# Altium schematic symbol library SCH - MCU - NUVOTON - NUVOTON M030GTC0AE.SchLib: 1 symbol
Pins are listed as number, name and electrical type; pins without a type are passive.

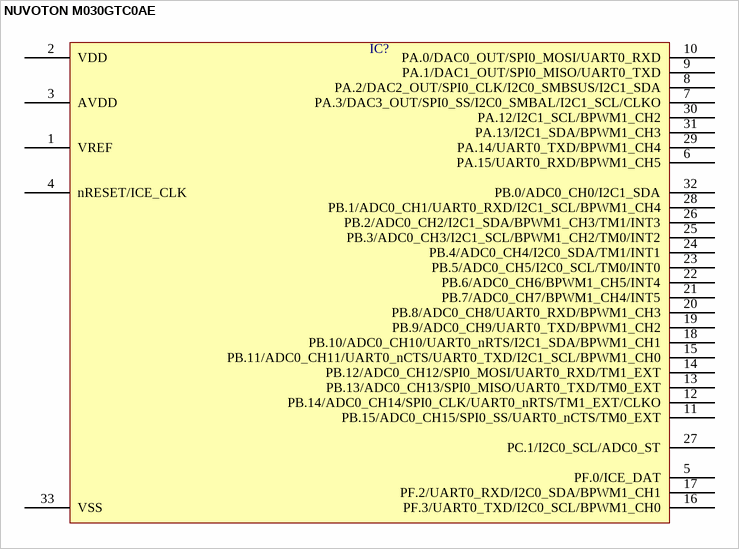
[diagram p0: symbol NUVOTON M030GTC0AE]

## NUVOTON M030GTC0AE
designator IC?  (value not drawn)
pins: 1 VREF, 2 VDD, 3 AVDD, 4 nRESET/ICE_CLK, 5 PF.0/ICE_DAT, 6 PA.15/UART0_RXD/BPWM1_CH5, 7 PA.3/DAC3_OUT/SPI0_SS/I2C0_SMBAL/I2C1_SCL/CLKO, 8 PA.2/DAC2_OUT/SPI0_CLK/I2C0_SMBSUS/I2C1_SDA, 9 PA.1/DAC1_OUT/SPI0_MISO/UART0_TXD, 10 PA.0/DAC0_OUT/SPI0_MOSI/UART0_RXD, 11 PB.15/ADC0_CH15/SPI0_SS/UART0_nCTS/TM0_EXT, 12 PB.14/ADC0_CH14/SPI0_CLK/UART0_nRTS/TM1_EXT/CLKO, 13 PB.13/ADC0_CH13/SPI0_MISO/UART0_TXD/TM0_EXT, 14 PB.12/ADC0_CH12/SPI0_MOSI/UART0_RXD/TM1_EXT, 15 PB.11/ADC0_CH11/UART0_nCTS/UART0_TXD/I2C1_SCL/BPWM1_CH0, 16 PF.3/UART0_TXD/I2C0_SCL/BPWM1_CH0, 17 PF.2/UART0_RXD/I2C0_SDA/BPWM1_CH1, 18 PB.10/ADC0_CH10/UART0_nRTS/I2C1_SDA/BPWM1_CH1, 19 PB.9/ADC0_CH9/UART0_TXD/BPWM1_CH2, 20 PB.8/ADC0_CH8/UART0_RXD/BPWM1_CH3, 21 PB.7/ADC0_CH7/BPWM1_CH4/INT5, 22 PB.6/ADC0_CH6/BPWM1_CH5/INT4, 23 PB.5/ADC0_CH5/I2C0_SCL/TM0/INT0, 24 PB.4/ADC0_CH4/I2C0_SDA/TM1/INT1, 25 PB.3/ADC0_CH3/I2C1_SCL/BPWM1_CH2/TM0/INT2, 26 PB.2/ADC0_CH2/I2C1_SDA/BPWM1_CH3/TM1/INT3, 27 PC.1/I2C0_SCL/ADC0_ST, 28 PB.1/ADC0_CH1/UART0_RXD/I2C1_SCL/BPWM1_CH4, 29 PA.14/UART0_TXD/BPWM1_CH4, 30 PA.12/I2C1_SCL/BPWM1_CH2, 31 PA.13/I2C1_SDA/BPWM1_CH3, 32 PB.0/ADC0_CH0/I2C1_SDA, 33 VSS